# Altium footprint library SOP-8.PcbLib: 1 footprints
Each footprint in its own frame and in the unit in brackets; x right, y up, seen from the top. Pads: shape width x height; smd on the part's side, far side on the other; paste and mask are expansions set on the pad; w line width, h text height; cw(c..) or ccw(c..) is an arc to the next point about the centre after c.
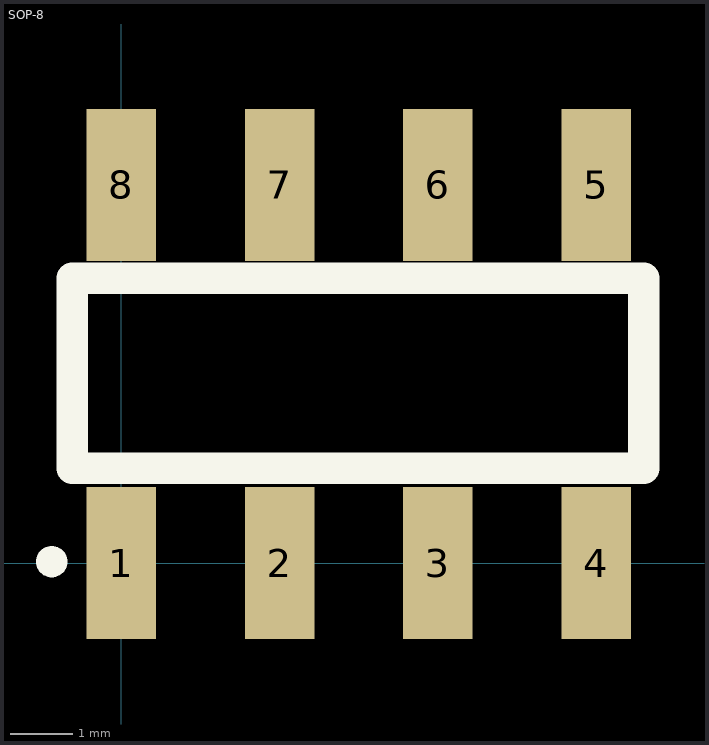
[diagram p0: the footprint, top view; thin cyan lines are the x and y axes]

## SOP-8 [mil]
pads (9):
  rect 44x96 smd: 1(0,0) 2(100,0) 3(200,0) 4(300,0) 5(300,239) 6(200,239) 7(100,239) 8(0,239)
  round 20 on Top Overlay: ""(-44,1)
TopOverlay:
  lines w20: -31,60 -31,180 ; -30,60 330,60 330,180 -30,180
3D body: height 83.74, standoff 1.06, extent -33.03,-24.79 337.05,250.8